# Altium schematic symbol library MOSFET,Array,2PCh,50V,160mA,SOT363.Schlib: 1 symbol
Pins are listed as number, name and electrical type; pins without a type are passive.

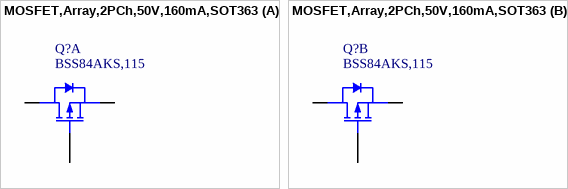
[diagram p0: symbol MOSFET,Array,2PCh,50V,160mA,SOT363]

## MOSFET,Array,2PCh,50V,160mA,SOT363
designator Q?, comment BSS84AKS,115
Mosfet Array 50V 160mA 445mW Surface Mount 6-TSSOP
part A pins: 1 S1, 2 G1, 6 D1
part B pins: 3 D2, 4 S2, 5 G2